# Altium footprint library 61203422021.PCBLIB: 1 footprints
Each footprint in its own frame and in the unit in brackets; x right, y up, seen from the top. Pads: shape width x height; smd on the part's side, far side on the other; paste and mask are expansions set on the pad; w line width, h text height; cw(c..) or ccw(c..) is an arc to the next point about the centre after c.
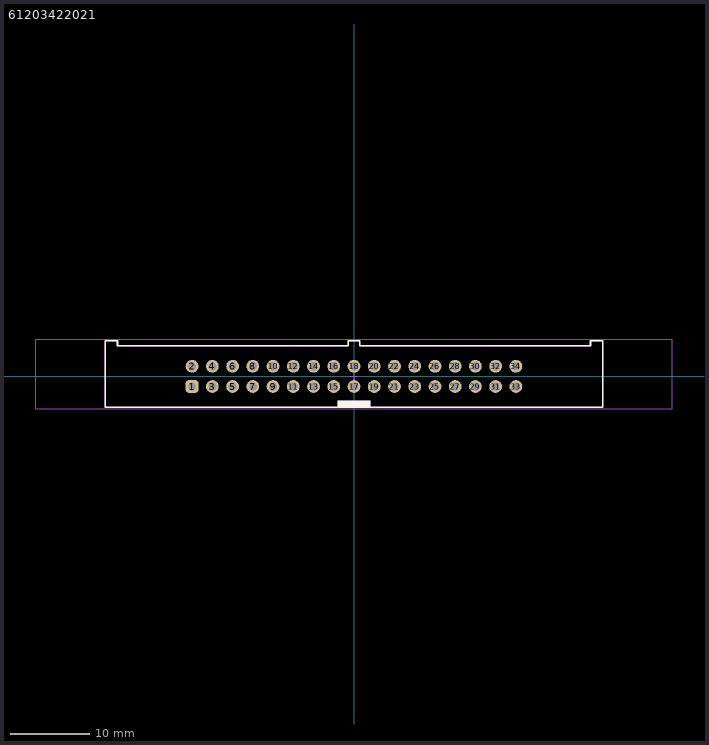
[diagram p0: the footprint, top view; thin cyan lines are the x and y axes]

## 61203422021 [mm] "34 pins, straight, short lever, gold plating"
height 24.5
pads (34):
  rrect50% 1.6x1.6 hole 1.02: 1(-20.32,-1.27)
  round 1.6 hole 1.02: 2(-20.32,1.27) 3(-17.78,-1.27) 4(-17.78,1.27) 5(-15.24,-1.27) 6(-15.24,1.27) 7(-12.7,-1.27) 8(-12.7,1.27) 9(-10.16,-1.27) 10(-10.16,1.27) 11(-7.62,-1.27) 12(-7.62,1.27) 13(-5.08,-1.27) 14(-5.08,1.27) 15(-2.54,-1.27) 16(-2.54,1.27) 17(0,-1.27) 18(0,1.27) 19(2.54,-1.27) 20(2.54,1.27) 21(5.08,-1.27) 22(5.08,1.27) 23(7.62,-1.27) 24(7.62,1.27) 25(10.16,-1.27) 26(10.16,1.27) 27(12.7,-1.27) 28(12.7,1.27) 29(15.24,-1.27) 30(15.24,1.27) 31(17.78,-1.27) 32(17.78,1.27) 33(20.32,-1.27) 34(20.32,1.27)
Top Overlay:
  rectangle: -2.1,-3.85 2.1,-3.05
  lines w0.2: -0.7,4.45 -0.7,3.85 -29.69,3.85 -29.69,4.45 -31.24,4.45 -31.24,-3.85 31.24,-3.85 31.24,4.45 29.69,4.45 29.69,3.85 0.7,3.85 0.7,4.45 -0.7,4.45 ; -0.7,4.45 -0.7,4.45
Top Assembly:
  rectangle: -2.1,-3.85 2.1,-3.05
  lines w0.1: -0.7,4.45 0.7,4.45 0.7,3.85 29.69,3.85 29.69,4.45 31.24,4.45 31.24,-3.85 -31.24,-3.85 -31.24,4.45 -29.69,4.45 -29.69,3.85 -0.7,3.85 -0.7,4.45 ; -0.7,4.45 -0.7,4.45
Top Courtyard:
  lines w0.05: -39.94,-4.05 39.94,-4.05 39.94,4.65 -39.94,4.65 -39.94,-4.05
Top Designator:
  text ".Designator" at -7.498,-0.5 h1.5
Top Component Center:
  lines w0.05: -0.5,0 0.5,0 ; 0,-0.5 0,0.5
3D body "61203422021.stp": height 24.55, standoff -3.35, extent -31.34,-3.85 31.34,4.45